# Altium footprint library HDDR_13x1_0.PcbLib: 1 footprints
Each footprint in its own frame and in the unit in brackets; x right, y up, seen from the top. Pads: shape width x height; smd on the part's side, far side on the other; paste and mask are expansions set on the pad; w line width, h text height; cw(c..) or ccw(c..) is an arc to the next point about the centre after c.
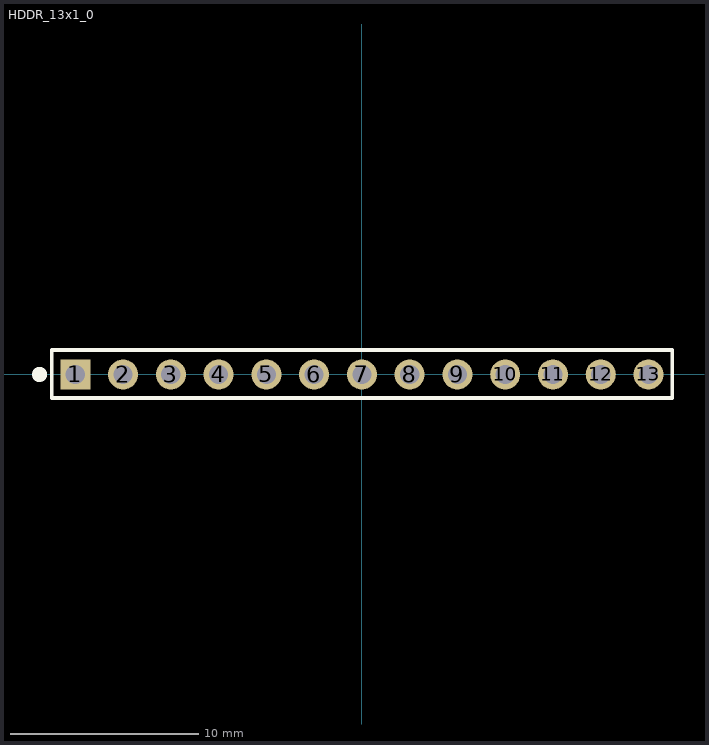
[diagram p0: the footprint, top view; thin cyan lines are the x and y axes]

## HDDR_13x1_0 [mm]
pads (13):
  rect 1.6x1.6 hole 1.02: 1(-15.24,0)
  round 1.6 hole 1.02: 2(-12.7,0) 3(-10.16,0) 4(-7.62,0) 5(-5.08,0) 6(-2.54,0) 7(0,0) 8(2.54,0) 9(5.08,0) 10(7.62,0) 11(10.16,0) 12(12.7,0) 13(15.24,0)
Top Overlay:
  circle w0.4: c-17.14,0 r0.2
  lines w0.2: -16.49,-1.25 -16.49,1.3 16.5,1.3 16.5,-1.25 -16.49,-1.25
3D body "hddr_male_13x1.SLDPRT": height 8.54, standoff -3, extent -16.51,-1.24 16.51,1.3